# Altium footprint library SignalCommunications.PCBLIB: 466 footprints (part 27 of 30)
Each footprint in its own frame and in the unit in brackets; x right, y up, seen from the top. Pads: shape width x height; smd on the part's side, far side on the other; paste and mask are expansions set on the pad; w line width, h text height; cw(c..) or ccw(c..) is an arc to the next point about the centre after c.
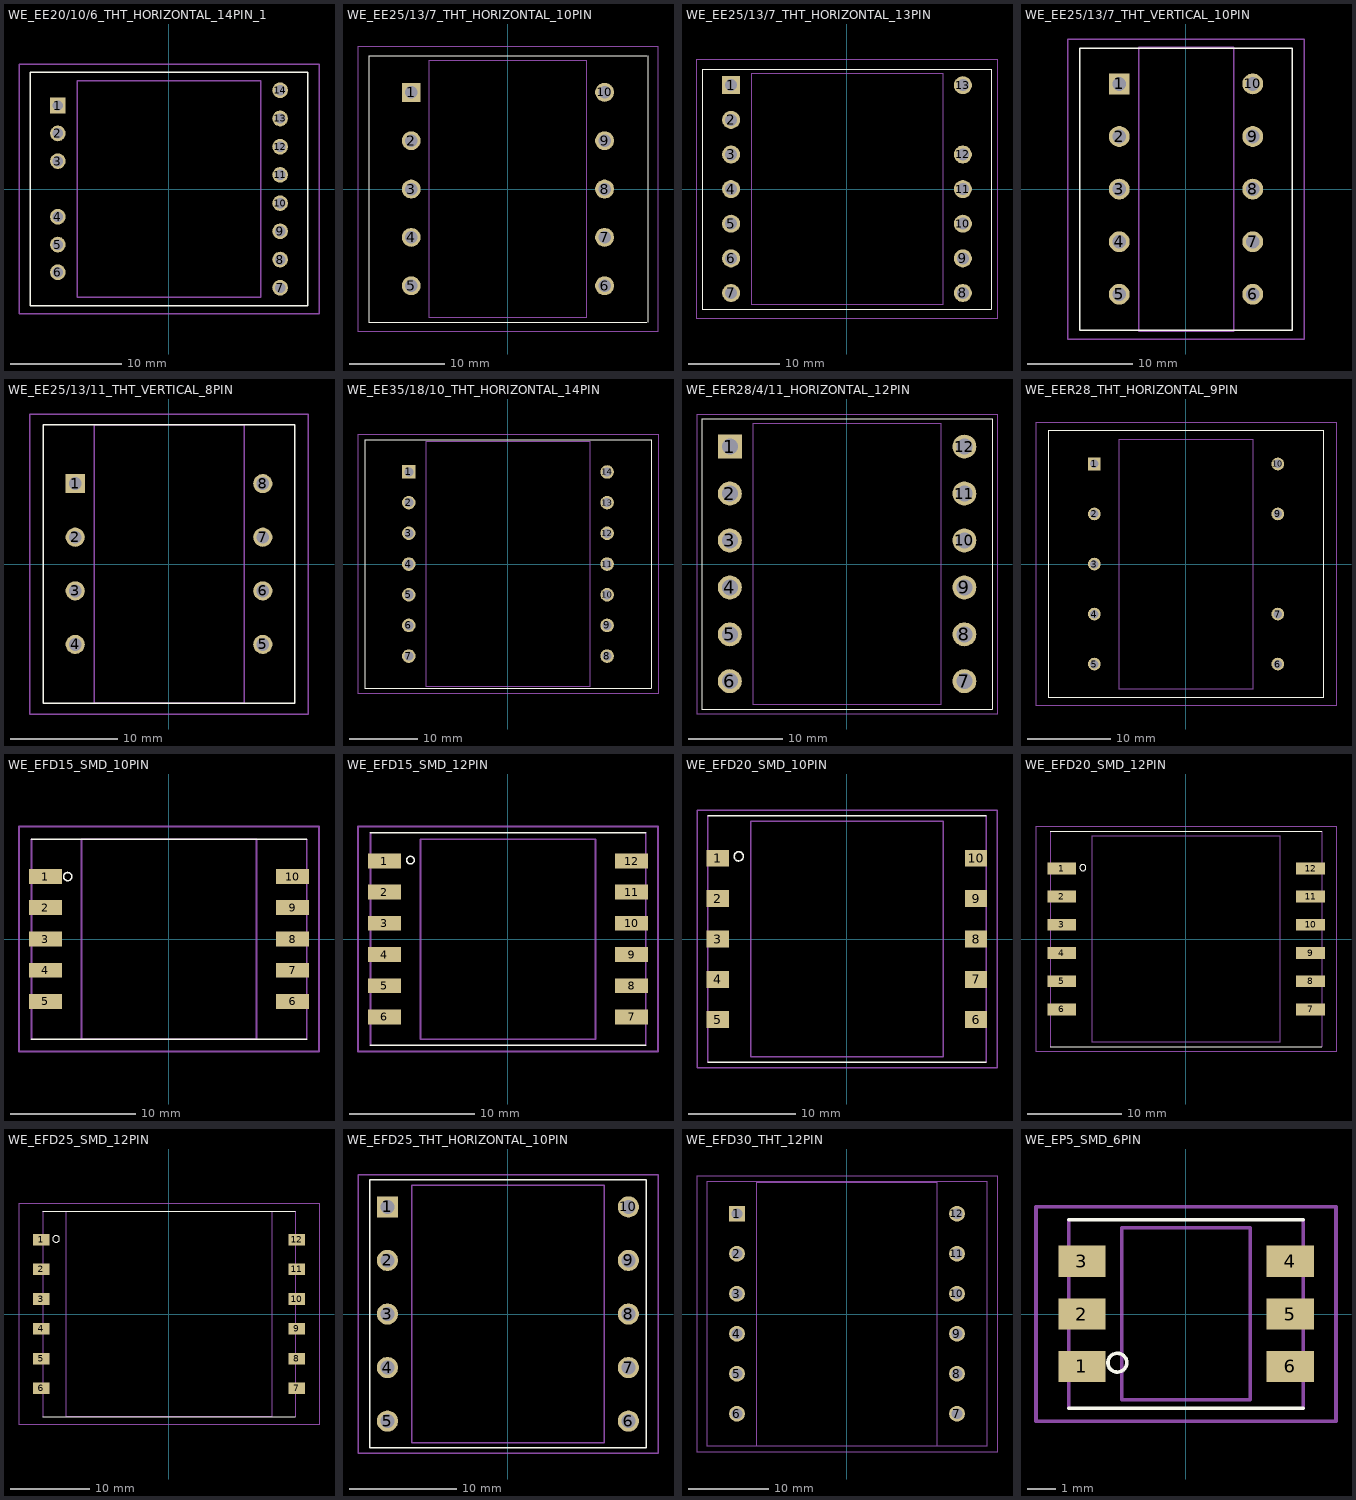
[diagram p26: the footprints below, top view; thin cyan lines are the x and y axes]

## WE_EE20/10/6_THT_HORIZONTAL_14PIN_1 [mil]
pads (14):
  rect 55.5x55.5 hole 37: 1(-393.7,296)
  round 55.5 hole 37: 2(-393.7,197) 3(-393.7,99) 4(-393.7,-98.43) 5(-393.7,-196.85) 6(-393.7,-295.28) 7(394,-350) 8(394,-250) 9(394,-150) 10(394,-50) 11(394,50) 12(394,150) 13(394,250) 14(394,350)
Top Overlay:
  lines w5: -492.13,-413.39 493,-413.39 493,414 -492.13,414 -492.13,-413.39
Mechanical 10:
  lines w5: -324.8,-383.86 325,-383.86 325,384 -324.8,384 -324.8,-383.86
Mechanical 27:
  lines w5: -531.5,-442.91 532,-442.91 532,443 -531.5,443 -531.5,-442.91

## WE_EE25/13/7_THT_HORIZONTAL_10PIN [mil]
pads (10):
  rect 78x78 hole 52: 1(-400,400)
  round 78 hole 52: 2(-400,200) 3(-400,0) 4(-400,-200) 5(-400,-400) 6(400,-400) 7(400,-200) 8(400,0) 9(400,200) 10(400,400)
Top Overlay:
  lines w5: 575,-551.18 -574.8,-551.18 -574.8,552 575,552 ; 579,-551.18 579,552
Mechanical 10:
  lines w5: -324.8,-531.5 325,-531.5 325,532 -324.8,532 -324.8,-531.5
Mechanical 27:
  lines w5: -620.08,-590.55 621,-590.55 621,591 -620.08,591 -620.08,-590.55

## WE_EE25/13/7_THT_HORIZONTAL_13PIN [mil]
pads (13):
  rect 78x78 hole 52: 1(-501.97,450)
  round 78 hole 52: 2(-501.97,300) 3(-501.97,150) 4(-501.97,0) 5(-501.97,-150) 6(-501.97,-300) 7(-501.97,-450) 8(502,-450) 9(502,-300) 10(502,-150) 11(502,0) 12(502,150) 13(502,450)
Top Overlay:
  lines w5: -625.98,-519.68 -625.98,520 626,520 626,-519.68 -625.98,-519.68
Mechanical 10:
  lines w5: -413.39,-501.97 414,-501.97 414,502 -413.39,502 -413.39,-501.97
Mechanical 27:
  lines w5: -649.61,-561.02 650,-561.02 650,562 -649.61,562 -649.61,-561.02

## WE_EE25/13/7_THT_VERTICAL_10PIN [mil]
pads (10):
  rect 78x78 hole 52: 1(-250,394)
  round 78 hole 52: 2(-250,197) 3(-250,0) 4(-250,-196.85) 5(-250,-393.7) 6(250,-393.7) 7(250,-196.85) 8(250,0) 9(250,197) 10(250,394)
Top Overlay:
  lines w5: -397.64,-527.56 398,-527.56 398,528 -397.64,528 -397.64,-527.56
Mechanical 10:
  lines w5: -177.17,-531.5 178,-531.5 178,532 -177.17,532 -177.17,-531.5
Mechanical 27:
  lines w5: -442.91,-561.02 443,-561.02 443,562 -442.91,562 -442.91,-561.02

## WE_EE25/13/11_THT_VERTICAL_8PIN [mil]
pads (8):
  rect 70.5x70.5 hole 47: 1(-344.88,296)
  round 70.5 hole 47: 2(-344.88,99) 3(-344.88,-98.43) 4(-344.88,-295.28) 5(345,-295.28) 6(345,-98.43) 7(345,99) 8(345,296)
Top Overlay:
  lines w5: -462.6,-511.81 463,-511.81 463,512 -462.6,512 -462.6,-511.81
Mechanical 10:
  lines w5: -275.59,-511.81 276,-511.81 276,512 -275.59,512 -275.59,-511.81
Mechanical 27:
  lines w5: -511.81,-551.18 512,-551.18 512,552 -511.81,552 -511.81,-551.18

## WE_EE35/18/10_THT_HORIZONTAL_14PIN [mil]
pads (14):
  rect 78x78 hole 52: 1(-572.83,532)
  round 78 hole 52: 2(-572.83,355) 3(-572.83,178) 4(-572.83,0) 5(-572.83,-177.17) 6(-572.83,-354.33) 7(-572.83,-531.5) 8(573,-531.5) 9(573,-354.33) 10(573,-177.17) 11(573,0) 12(573,178) 13(573,355) 14(573,532)
Top Overlay:
  lines w5: -826.77,-718.5 827,-718.5 827,719 -826.77,719 -826.77,-718.5
Mechanical 10:
  lines w5: -472.44,-708.66 473,-708.66 473,709 -472.44,709 -472.44,-708.66
Mechanical 27:
  lines w5: -866.14,-748.03 867,-748.03 867,749 -866.14,749 -866.14,-748.03

## WE_EER28/4/11_HORIZONTAL_12PIN [mil]
pads (12):
  rect 100.5x100.5 hole 67: 1(-492.13,493)
  round 100.5 hole 67: 2(-492.13,296) 3(-492.13,99) 4(-492.13,-98.43) 5(-492.13,-295.28) 6(-492.13,-492.13) 7(493,-492.13) 8(493,-295.28) 9(493,-98.43) 10(493,99) 11(493,296) 12(493,493)
Top Overlay:
  lines w5: -610.24,-610.24 611,-610.24 611,611 -610.24,611 -610.24,-610.24
Mechanical 10:
  lines w5: -393.7,-590.55 394,-590.55 394,591 -393.7,591 -393.7,-590.55
Mechanical 27:
  lines w5: -629.92,-629.92 630,-629.92 630,630 -629.92,630 -629.92,-629.92

## WE_EER28_THT_HORIZONTAL_9PIN [mil]
pads (9):
  rect 60x60 hole 40: 1(-433.07,473)
  round 60 hole 40: 2(-433.07,237) 3(-433.07,0) 4(-433.07,-236.22) 5(-433.07,-472.44) 6(434,-472.44) 7(434,-236.22) 9(434,237) 10(434,473)
Top Overlay:
  lines w5: -649.61,-629.92 650,-629.92 650,630 -649.61,630 -649.61,-629.92
Mechanical 10:
  lines w5: -314.96,-590.55 315,-590.55 315,591 -314.96,591 -314.96,-590.55
Mechanical 27:
  lines w5: -708.66,-669.29 709,-669.29 709,670 -708.66,670 -708.66,-669.29

## WE_EFD15_SMD_10PIN [mil]
pads (10):
  rect 104x47 smd: 1(-389.57,197) 2(-389.57,99) 3(-389.57,0) 4(-389.57,-98.03) 5(-389.57,-196.06) 6(390,-196.06) 7(390,-98.03) 8(390,0) 9(390,99) 10(390,197)
Top Overlay:
  circle w5: c-318.9,197 r13
  lines w5: -433.07,-314.96 434,-314.96 ; -433.07,315 434,315
Mechanical 10:
  lines w5: -275.59,-314.96 276,-314.96 276,315 -275.59,315 -275.59,-314.96
Mechanical 16:
  lines w5: -433.07,-314.96 -433.07,315 ; 434,-314.96 434,315
Mechanical 27:
  lines w5: -472.44,-354.33 473,-354.33 473,355 -472.44,355 -472.44,-354.33

## WE_EFD15_SMD_12PIN [mil]
pads (12):
  rect 104x47 smd: 1(-389.57,246) 2(-389.57,148) 3(-389.57,50) 4(-389.57,-49.02) 5(-389.57,-147.05) 6(-389.57,-245.08) 7(390,-245.08) 8(390,-147.05) 9(390,-49.02) 10(390,50) 11(390,148) 12(390,246)
Top Overlay:
  circle w5: c-307.09,249 r12
  lines w5: -433.07,-334.65 434,-334.65 ; -433.07,335 434,335
Mechanical 10:
  lines w5: -275.59,-314.96 276,-314.96 276,315 -275.59,315 -275.59,-314.96
Mechanical 16:
  lines w5: -433.07,-334.65 -433.07,335 ; 434,-334.65 434,335
Mechanical 27:
  lines w5: -472.44,-354.33 473,-354.33 473,355 -472.44,355 -472.44,-354.33

## WE_EFD20_SMD_10PIN [mil]
pads (10):
  rect 82x62 smd: 1(-474.41,297) 2(-474.41,149) 3(-474.41,0) 4(-474.41,-148.03) 5(-474.41,-296.06) 6(475,-296.06) 7(475,-148.03) 8(475,0) 9(475,149) 10(475,297)
Top Overlay:
  circle w5: c-397.64,304 r17
  lines w5: -511.81,-452.76 512,-452.76 ; -511.81,453 512,453
Mechanical 10:
  lines w5: -354.33,-433.07 355,-433.07 355,434 -354.33,434 -354.33,-433.07
Mechanical 16:
  lines w5: -511.81,-452.76 -511.81,453 ; 512,-452.76 512,453
Mechanical 27:
  lines w5: -551.18,-472.44 552,-472.44 552,473 -551.18,473 -551.18,-472.44

## WE_EFD20_SMD_12PIN [mil]
pads (12):
  rect 121x50 smd: 1(-522.05,296) 2(-522.05,178) 3(-522.05,60) 4(-522.05,-59.06) 5(-522.05,-177.17) 6(-522.05,-295.28) 7(523,-295.28) 8(523,-177.17) 9(523,-59.06) 10(523,60) 11(523,178) 12(523,296)
Top Overlay:
  circle w5: c-433.07,300 r13
  lines w5: -570.87,-452.76 571,-452.76 ; -570.87,453 571,453
Mechanical 10:
  lines w5: -393.7,-433.07 394,-433.07 394,434 -393.7,434 -393.7,-433.07
Mechanical 16:
  lines w5: -570.87,-452.76 -570.87,453 ; 571,-452.76 571,453
Mechanical 27:
  lines w5: -629.92,-472.44 630,-472.44 630,473 -629.92,473 -629.92,-472.44

## WE_EFD25_SMD_12PIN [mil]
pads (12):
  rect 82x58 smd: 1(-636.02,371) 2(-636.02,223) 3(-636.02,75) 4(-636.02,-74.02) 5(-636.02,-222.05) 6(-636.02,-370.08) 7(637,-370.08) 8(637,-222.05) 9(637,-74.02) 10(637,75) 11(637,223) 12(637,371)
Top Overlay:
  circle w5: c-562.99,375 r17
  lines w5: -629.92,-511.81 630,-511.81 ; -629.92,512 630,512
Mechanical 10:
  lines w5: -511.81,-511.81 512,-511.81 512,512 -511.81,512 -511.81,-511.81
Mechanical 16:
  lines w5: -629.92,-511.81 -629.92,512 ; 630,-511.81 630,512
Mechanical 27:
  lines w5: -748.03,-551.18 749,-551.18 749,552 -748.03,552 -748.03,-551.18

## WE_EFD25_THT_HORIZONTAL_10PIN [mil]
pads (10):
  rect 78x78 hole 52: 1(-442.91,394)
  round 78 hole 52: 2(-442.91,197) 3(-442.91,0) 4(-442.91,-196.85) 5(-442.91,-393.7) 6(443,-393.7) 7(443,-196.85) 8(443,0) 9(443,197) 10(443,394)
Top Overlay:
  lines w5: -508.07,-492.13 509,-492.13 509,493 -508.07,493 -508.07,-492.13
Mechanical 10:
  lines w5: -354.33,-472.44 355,-472.44 355,473 -354.33,473 -354.33,-472.44
Mechanical 27:
  lines w5: -551.18,-511.81 552,-511.81 552,512 -551.18,512 -551.18,-511.81

## WE_EFD30_THT_12PIN [mil]
pads (12):
  rect 78x78 hole 52: 1(-541.34,494)
  round 78 hole 52: 2(-541.34,297) 3(-541.34,100) 4(-541.34,-96.85) 5(-541.34,-293.7) 6(-541.34,-490.55) 7(542,-490.55) 8(542,-293.7) 9(542,-96.85) 10(542,100) 11(542,297) 12(542,494)
Mechanical 4:
  lines w5: -691.34,-648.03 692,-648.03 692,652 -691.34,652 -691.34,-648.03
Mechanical 10:
  lines w5: -442.91,-649.61 443,-649.61 443,650 -442.91,650 -442.91,-649.61
Mechanical 27:
  lines w5: -738.19,-679.13 739,-679.13 739,680 -738.19,680 -738.19,-679.13

## WE_EP5_SMD_6PIN [mil]
pads (6):
  rect 65x43 smd: 1(-143.5,-72.05) 2(-143.5,0) 3(-143.5,73) 4(144,73) 5(144,0) 6(144,-72.05)
Top Overlay:
  circle w5: c-94.49,-66.93 r13
  lines w5: -161.42,-129.92 162,-129.92 ; -161.42,130 162,130
Mechanical 10:
  lines w5: -88.58,-118.11 89,-118.11 89,119 -88.58,119 -88.58,-118.11
Mechanical 16:
  lines w5: -161.42,-129.92 -161.42,130 ; 162,-129.92 162,130
Mechanical 27:
  lines w5: -206.69,-147.64 207,-147.64 207,148 -206.69,148 -206.69,-147.64